# EAGLE library part MRF24J40MA (library wireless)
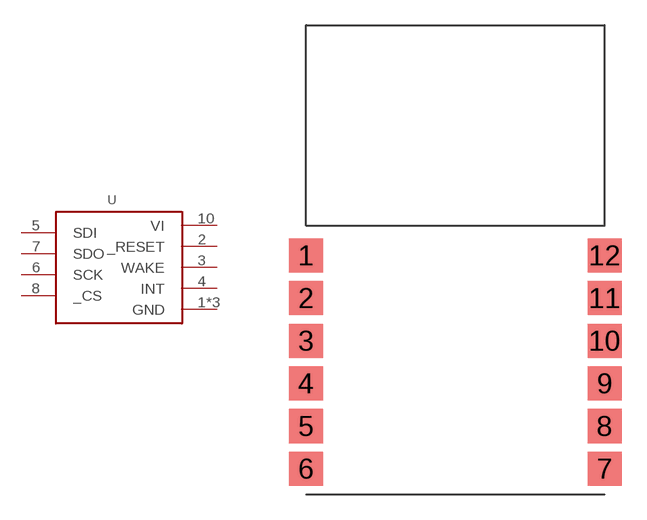
[diagram p1: symbol with the pads of MRF24J40MA; footprint MRF24J40MA]

Designator prefix U

## MRF24J40MA  [MRF24J40MA]
1  GND
2  _RESET
3  WAKE
4  INT
5  SDI
6  SCK
7  SDO
8  _CS
10  VI
11  GND
12  GND

## Footprint MRF24J40MA (pad centres in mm)
smd 2.032 x 2.032: 1 -8.89,6.35; 2 -8.89,3.81; 3 -8.89,1.27; 4 -8.89,-1.27; 5 -8.89,-3.81; 6 -8.89,-6.35; 7 8.89,-6.35; 8 8.89,-3.81; 9 8.89,-1.27; 10 8.89,1.27; 11 8.89,3.81; 12 8.89,6.35